# Altium schematic symbol library SG3525.SchLib: 1 symbol
Pins are listed as number, name and electrical type; pins without a type are passive.

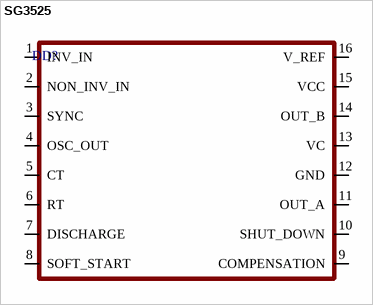
[diagram p0: symbol SG3525]

## SG3525
designator DD?
footprint SO16-150
pins: 1 INV_IN, 2 NON_INV_IN, 3 SYNC, 4 OSC_OUT, 5 CT, 6 RT, 7 DISCHARGE, 8 SOFT_START, 9 COMPENSATION, 10 SHUT_DOWN, 11 OUT_A, 12 GND, 13 VC, 14 OUT_B, 15 VCC, 16 V_REF